# EAGLE library part 6257268 (library 625-7268)
RS Pro SCP Series, Through Hole IDC Connector Plug, 16 Way, 2 Row, 2.54mm Pitch Source: Datasheet <https://datasheet.datasheetarchive.com/originals/distributors/Datasheets_SAMA/eeff7582968da6f8fdeacd8d2fe262c3.pdf>
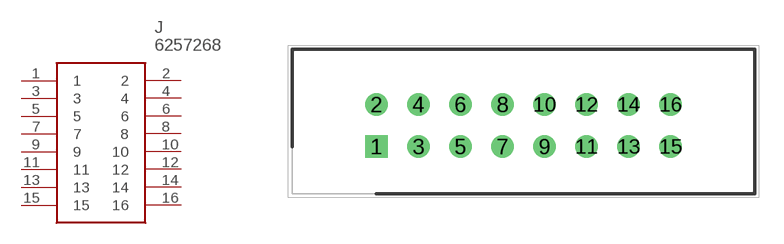
[diagram p0: symbol with the pads of SHDR16W64P254_2X8_2790X860X930; footprint SHDR16W64P254_2X8_2790X860X930]

Designator prefix J

## 6257268 (Description: RS Pro SCP Series, Through Hole IDC Connector Plug, 16 Way, 2 Row, 2.54mm Pitch; Height: 9.3mm; Manufacturer_Name: RS Components; Manufacturer_Part_Number: 6257268)  [SHDR16W64P254_2X8_2790X860X930]
1  1
2  2
3  3
4  4
5  5
6  6
7  7
8  8
9  9
10  10
11  11
12  12
13  13
14  14
15  15
16  16

## Footprint SHDR16W64P254_2X8_2790X860X930 (pad centres in mm)
6257268
drill 0.85 pad 1.275 square: 1 0,0
drill 0.85 pad 1.275: 2 0,2.54; 3 2.54,0; 4 2.54,2.54; 5 5.08,0; 6 5.08,2.54; 7 7.62,0; 8 7.62,2.54; 9 10.16,0; 10 10.16,2.54; 11 12.7,0; 12 12.7,2.54; 13 15.24,0; 14 15.24,2.54; 15 17.78,0; 16 17.78,2.54